# Altium integrated library STM32F030xxT6x.IntLib: 2 symbols
Pins are listed as number, name and electrical type; pins without a type are passive.

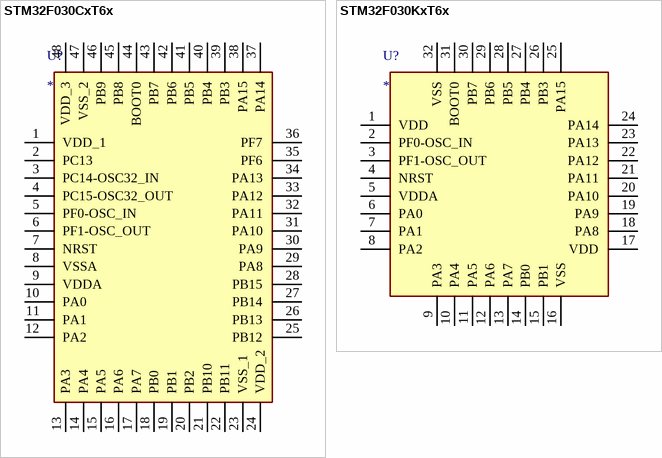
[diagram p0: symbols STM32F030CxT6x to STM32F030KxT6x]

## STM32F030CxT6x
designator U?
uC - STM32 / F - General purpose / 030 - subfamily / C - 48pins / x - code size (4 or 6 or 8 or C) / T - LQFP / x - Option; datasheet: https://www.mouser.es/datasheet/2/389/dm00088500-1797910.pdf; link: https://www.mouser.es/ProductDetail/STMicroelectronics/STM32F030C6T6TR?qs=%2Fha2pyFadujR%2FWSfahMbfq1WXNlEwlQCksMgAwgk3epMIIHTpmp46Q%3D%3D
footprint LQFP-48
pins: 1 VDD_1, 2 PC13, 3 PC14-OSC32_IN, 4 PC15-OSC32_OUT, 5 PF0-OSC_IN, 6 PF1-OSC_OUT, 7 NRST, 8 VSSA, 9 VDDA, 10 PA0, 11 PA1, 12 PA2, 13 PA3, 14 PA4, 15 PA5, 16 PA6, 17 PA7, 18 PB0, 19 PB1, 20 PB2, 21 PB10, 22 PB11, 23 VSS_1, 24 VDD_2, 25 PB12, 26 PB13, 27 PB14, 28 PB15, 29 PA8, 30 PA9, 31 PA10, 32 PA11, 33 PA12, 34 PA13, 35 PF6, 36 PF7, 37 PA14, 38 PA15, 39 PB3, 40 PB4, 41 PB5, 42 PB6, 43 PB7, 44 BOOT0, 45 PB8, 46 PB9, 47 VSS_2, 48 VDD_3

## STM32F030KxT6x
designator U?
uC - STM32 / F - General purpose / 030 - subfamily / K - 32pins / x - code size (4 or 6 or 8 or C) / T - LQFP / x - Option; datasheet: https://www.mouser.es/datasheet/2/389/dm00088500-1797910.pdf; link: https://www.mouser.es/ProductDetail/STMicroelectronics/STM32F030C6T6TR?qs=%2Fha2pyFadujR%2FWSfahMbfq1WXNlEwlQCksMgAwgk3epMIIHTpmp46Q%3D%3D
footprint LQFP-32
pins: 1 VDD, 2 PF0-OSC_IN, 3 PF1-OSC_OUT, 4 NRST, 5 VDDA, 6 PA0, 7 PA1, 8 PA2, 9 PA3, 10 PA4, 11 PA5, 12 PA6, 13 PA7, 14 PB0, 15 PB1, 16 VSS, 17 VDD, 18 PA8, 19 PA9, 20 PA10, 21 PA11, 22 PA12, 23 PA13, 24 PA14, 25 PA15, 26 PB3, 27 PB4, 28 PB5, 29 PB6, 30 PB7, 31 BOOT0, 32 VSS